# Altium integrated library LM78M05CT.IntLib: 1 symbol
Pins are listed as number, name and electrical type; pins without a type are passive.

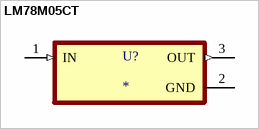
[diagram p0: symbol LM78M05CT]

## LM78M05CT
designator U?
Linear Voltage Regulator IC 1 Output 500mA TO-220-3; MP: LM78M05CT; MF: ON Semiconductor; Package: TO-220 ON Semiconductor; Availability: Warning; Value: *; Price: None; Check_prices: https://www.snapeda.com/parts/LM78M05CT/ON%20Semiconductor/view-part/2776523/?ref=eda; SnapEDA_Link: https://www.snapeda.com/parts/LM78M05CT/ON%20Semiconductor/view-part/2776523/?ref=snap; Purchase-URL: https://pricing.snapeda.com/search/part/LM78M05CT/?ref=eda
footprint TO254P1054X470X1955-3
pins: 1 IN (in), 2 GND (power), 3 OUT (out)